# EAGLE library part 11HM7 (library tubes_pmillett)
High Gm pentode
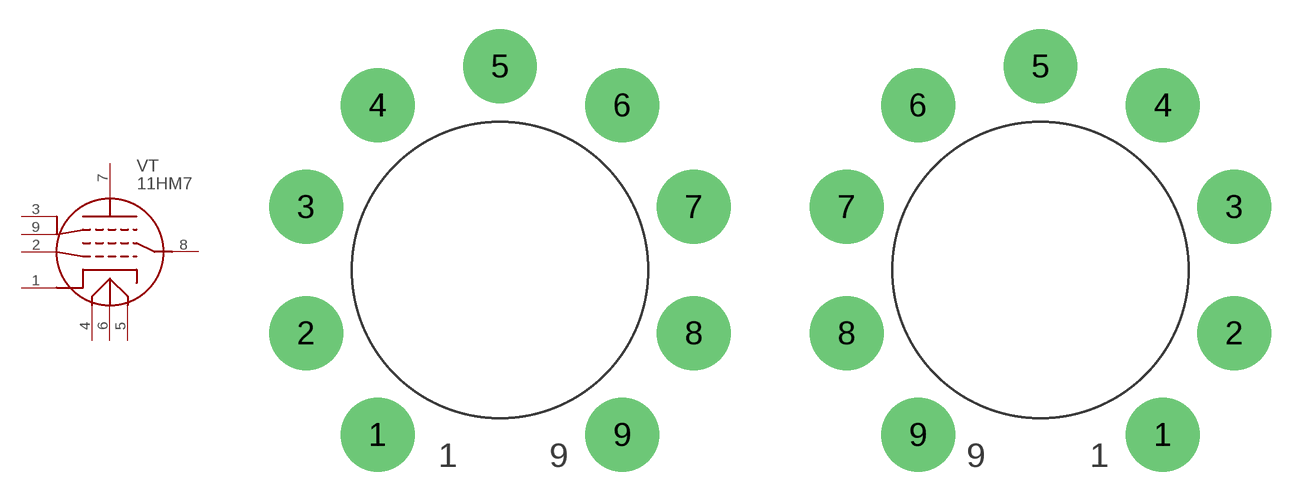
[diagram p83: symbol with the pads of NOVAL_BOTTOM_PCB; footprints NOVAL_BOTTOM_PCB, NOVAL_PCB]

Designator prefix VT

## 11HM7  [NOVAL_BOTTOM_PCB]
1  K  pas
2  G1  pas
3  G3B  pas
4  H1  pas
5  H2  pas
6  HCT  pas
7  A  pas
8  G2  pas
9  G3A  pas

## 11HM7_TOP  [NOVAL_PCB]
1  K  pas
2  G1  pas
3  G3A  pas
4  H1  pas
5  H2  pas
6  HCT  pas
7  A  pas
8  G2  pas
9  G3B  pas

## Footprint NOVAL_BOTTOM_PCB (pad centres in mm)
Standard 9-pin socket (Chinese ceramic, Belton, etc.), mounted bottom side
drill 1.93 pad 3.81: 1 -6.299,-8.484; 2 -9.982,-3.251; 3 -9.982,3.251; 4 -6.299,8.484; 5 0,10.49; 6 6.299,8.484; 7 9.982,3.251; 8 9.982,-3.251; 9 6.299,-8.484

## Footprint NOVAL_PCB (pad centres in mm)
TUBE SOCKET, NOVAL PCB
drill 1.93 pad 3.81: 1 6.299,-8.484; 2 9.982,-3.251; 3 9.982,3.251; 4 6.299,8.484; 5 0,10.49; 6 -6.299,8.484; 7 -9.982,3.251; 8 -9.982,-3.251; 9 -6.299,-8.484